# EAGLE library part ATF22 (library Custom_old)
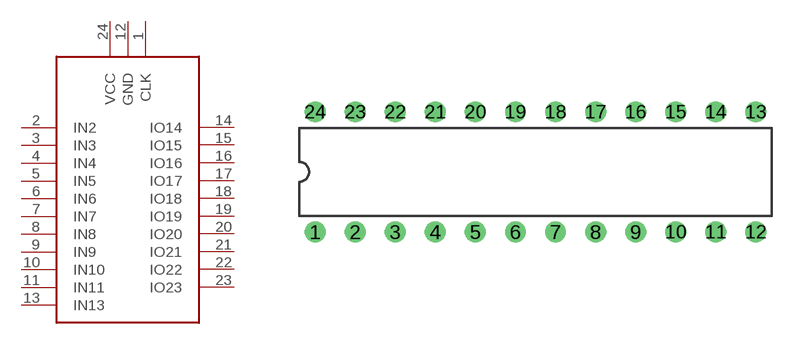
[diagram p26: symbol with the pads of PDIP-T24; footprint PDIP-T24]

Designator prefix -

## ATF22  [PDIP-T24]
1  CLK
2  IN2
3  IN3
4  IN4
5  IN5
6  IN6
7  IN7
8  IN8
9  IN9
10  IN10
11  IN11
12  GND
13  IN13
14  IO14
15  IO15
16  IO16
17  IO17
18  IO18
19  IO19
20  IO20
21  IO21
22  IO22
23  IO23
24  VCC

## Footprint PDIP-T24 (pad centres in mm)
NT (R-PDIP-T24) PLASTIC DUAL-IN-LINE PACKAGE Source: http://focus.ti.com/lit/ml/mpdi004a/mpdi004a.pdf
drill 0.813 pad 1.2: 1 -13.97,-3.81; 2 -11.43,-3.81; 3 -8.89,-3.81; 4 -6.35,-3.81; 5 -3.81,-3.81; 6 -1.27,-3.81; 7 1.27,-3.81; 8 3.81,-3.81; 9 6.35,-3.81; 10 8.89,-3.81; 11 11.43,-3.81; 12 13.97,-3.81; 13 13.97,3.81; 14 11.43,3.81; 15 8.89,3.81; 16 6.35,3.81; 17 3.81,3.81; 18 1.27,3.81; 19 -1.27,3.81; 20 -3.81,3.81; 21 -6.35,3.81; 22 -8.89,3.81; 23 -11.43,3.81; 24 -13.97,3.81